# Altium schematic symbol library Capacitors.SchLib: 5 symbols
Pins are listed as number, name and electrical type; pins without a type are passive.

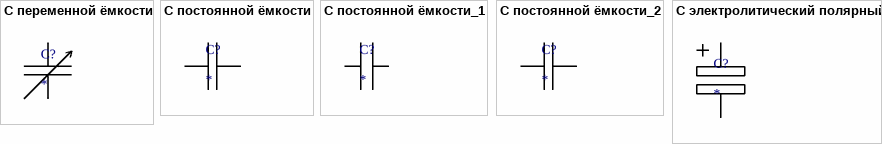
[diagram p0: symbols C переменной ёмкости to C электролитический полярный]

## C переменной ёмкости
designator C?
pins: 1, 2

## C постоянной ёмкости
designator C?
pins: 1, 2

## C постоянной ёмкости_1
designator C?
footprint B37986-N
pins: 1, 2

## C постоянной ёмкости_2
designator C?
footprint C_SMD_0805
pins: 1, 2

## C электролитический полярный
designator C?
pins: 1, 2